# Altium footprint library PCB - LEADED - TO-92-3.PCBLIB: 1 footprints
Each footprint in its own frame and in the unit in brackets; x right, y up, seen from the top. Pads: shape width x height; smd on the part's side, far side on the other; paste and mask are expansions set on the pad; w line width, h text height; cw(c..) or ccw(c..) is an arc to the next point about the centre after c.
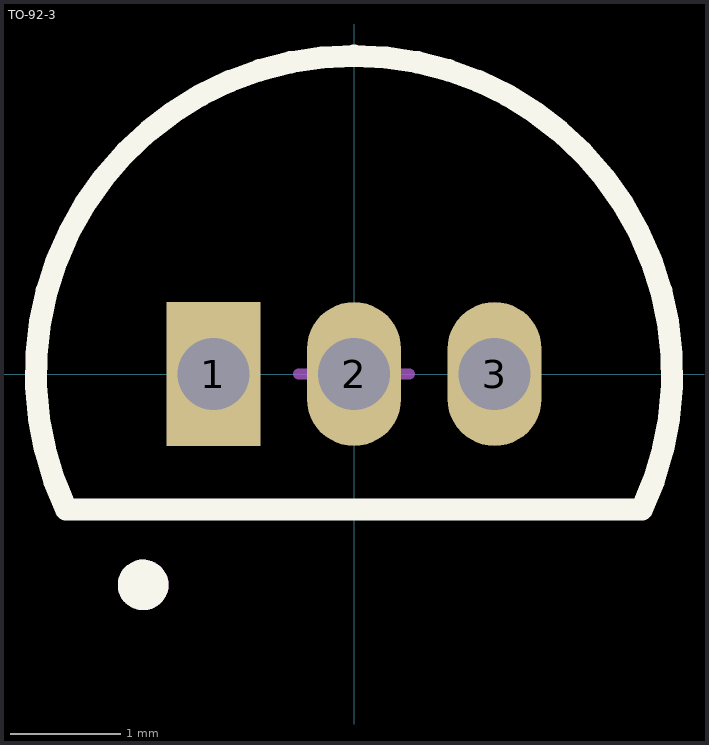
[diagram p0: the footprint, top view; thin cyan lines are the x and y axes]

## TO-92-3 [mm]
pads (3):
  rect 0.85x1.3 hole 0.65: 1(-1.27,0)
  oval 0.85x1.3 hole 0.65: 2(0,0) 3(1.27,0)
Top Overlay:
  circle w0.254: c-1.905,-1.905 r0.102
  lines w0.2: -2.6,-1.225 cw(c0,0) 2.6,-1.225 -2.6,-1.225
Top Assembly:
  circle w0.254: c-1.905,-1.905 r0.102
  lines w0.1: -2.6,-1.225 cw(c0,0) 2.6,-1.225 -2.6,-1.225
Top Courtyard:
  lines w0.1: -2.6,-1.225 cw(c0,0) 2.6,-1.225 -2.6,-1.225
Top Designator:
  text ".Designator" at -2.534,-2.853 h0.5
Top Component Center:
  lines w0.1: -0.5,0 0.5,0 ; 0,-0.5 0,0.5
3D body "TL430CLP.stp": height 4.85, standoff -12.67, extent -2.413,-1.14 2.412,2.542